# EAGLE library part IRF5851 (library IC)
International Rectifier IRF5851 Dual N and P channel power MOSFET
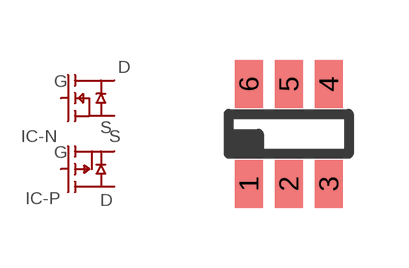
[diagram p92: symbol with the pads of TSOP6; footprint TSOP6]

Designator prefix IC; gates -N=IRF5851-N -P=IRF5851-P

## IRF5851  [TSOP6]
1  -N:G
2  -P:S
3  -P:G
4  -P:D
5  -N:S
6  -N:D

## Footprint TSOP6 (pad centres in mm)
TSOP6 package (IRF5851)
smd 0.7 x 1.2: 1 -1,-1.25; 2 0,-1.25; 3 1,-1.25; 4 1,1.25; 5 0,1.25; 6 -1,1.25